# Altium schematic symbol library RS-50.SchLib: 1 symbol
Pins are listed as number, name and electrical type; pins without a type are passive.

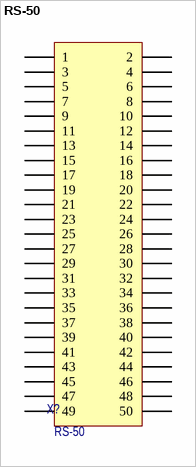
[diagram p0: symbol RS-50]

## RS-50
designator X?  (value not drawn)
RS-50, 50-pin, instrument plug of threaded connection.; Назначение: Connector for output of contacts to the front panel; Потребление, Вт: 0,0; Наименование: РС50
footprint RS-50
pins: 1, 2, 3, 4, 5, 6, 7, 8, 9, 10, 11, 12, 13, 14, 15, 16, 17, 18, 19, 20, 21, 22, 23, 24, 25, 26, 27, 28, 29, 30, 31, 32, 33, 34, 35, 36, 37, 38, 39, 40, 41, 42, 43, 44, 45, 46, 47, 48, 49, 50